# EAGLE library part S14B-PH (library con-jst-ph)
JST PH series header 2.00mm pitch disconnectable crimp style connectors, horizontal (side entry type), 14 pins
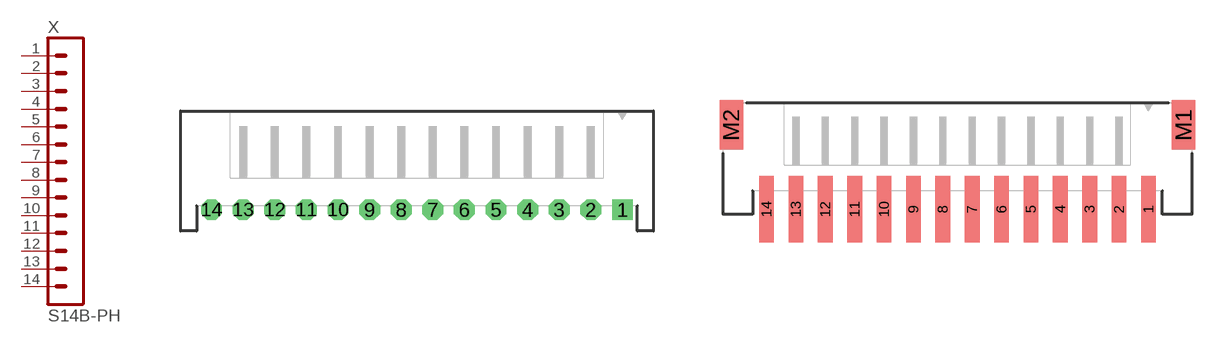
[diagram p19: symbol with the pads of S14B-PH-KL-S; footprints S14B-PH-KL-S, S14B-PH-SM4-TB]

Designator prefix X

## S14B-PH-KL-S  [S14B-PH-KL-S]
1  1  pas
2  2  pas
3  3  pas
4  4  pas
5  5  pas
6  6  pas
7  7  pas
8  8  pas
9  9  pas
10  10  pas
11  11  pas
12  12  pas
13  13  pas
14  14  pas

## S14B-PH-SM4-TB  [S14B-PH-SM4-TB]
Pads as for S14B-PH-KL-S

## Footprint S14B-PH-KL-S (pad centres in mm)
JST PH series header 2.00mm pitch disconnectable crimp style connectors, through-hole horizontal (side entry type), 14 pins
drill 0.7 pad 1.321 square: 1 13,0
drill 0.7 pad 1.321 octagon: 2 11,0; 3 9,0; 4 7,0; 5 5,0; 6 3,0; 7 1,0; 8 -1,0; 9 -3,0; 10 -5,0; 11 -7,0; 12 -9,0; 13 -11,0; 14 -13,0

## Footprint S14B-PH-SM4-TB (pad centres in mm)
JST PH series header 2.00mm pitch disconnectable crimp style connectors, SMT horizontal (side entry type), 14 pins
smd 1 x 4.5: 1 13,0; 2 11,0; 3 9,0; 4 7,0; 5 5,0; 6 3,0; 7 1,0; 8 -1,0; 9 -3,0; 10 -5,0; 11 -7,0; 12 -9,0; 13 -11,0; 14 -13,0
smd 1.6 x 3.4: M1 15.4,5.75; M2 -15.4,5.75